# Altium footprint library FL0800011Q.PcbLib: 1 footprints
Each footprint in its own frame and in the unit in brackets; x right, y up, seen from the top. Pads: shape width x height; smd on the part's side, far side on the other; paste and mask are expansions set on the pad; w line width, h text height; cw(c..) or ccw(c..) is an arc to the next point about the centre after c.
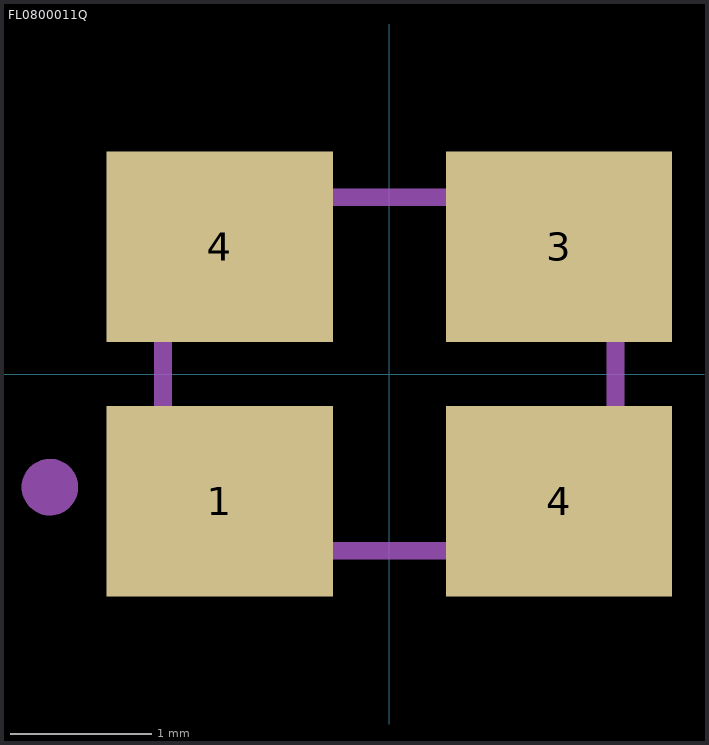
[diagram p0: the footprint, top view; thin cyan lines are the x and y axes]

## FL0800011Q [mm]
pads (4):
  rect 1.6x1.35 smd: 1(-1.2,-0.9) 3(1.2,0.9) 4(-1.2,0.9) 4(1.2,-0.9)
Mechanical 1:
  circle w0.2: c-2.4,-0.8 r0.1
  lines w0.127: -1.6,-1.25 1.6,-1.25 1.6,1.25 -1.6,1.25 -1.6,-1.25
3D body "3225 Crystal.step": height 0.6, standoff 0, extent -1.6,-1.25 1.6,1.25